# Altium integrated library L4u7.IntLib: 1 symbol
Pins are listed as number, name and electrical type; pins without a type are passive.

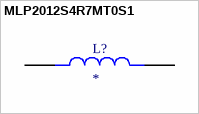
[diagram p0: symbol MLP2012S4R7MT0S1]

## MLP2012S4R7MT0S1
designator L?
Surface Mount High Frequency Inductor, MLP Series, 4.7 H, 20%, 0805 [2012 Metric], 0.26 ohm; MF: TDK; MP: MLP2012S4R7MT0S1; Package: 2012 TDK; Price: None; Check_prices: https://www.snapeda.com/parts/MLP2012S4R7MT0S1/TDK/view-part/?ref=eda; Value: *; SnapEDA_Link: https://www.snapeda.com/parts/MLP2012S4R7MT0S1/TDK/view-part/?ref=snap; Availability: In Stock; Purchase-URL: https://pricing.snapeda.com/search/part/MLP2012S4R7MT0S1/?ref=eda
footprint INDC2012X100N
pins: 1, 2